# Altium footprint library W3011.PcbLib: 1 footprints
Each footprint in its own frame and in the unit in brackets; x right, y up, seen from the top. Pads: shape width x height; smd on the part's side, far side on the other; paste and mask are expansions set on the pad; w line width, h text height; cw(c..) or ccw(c..) is an arc to the next point about the centre after c.
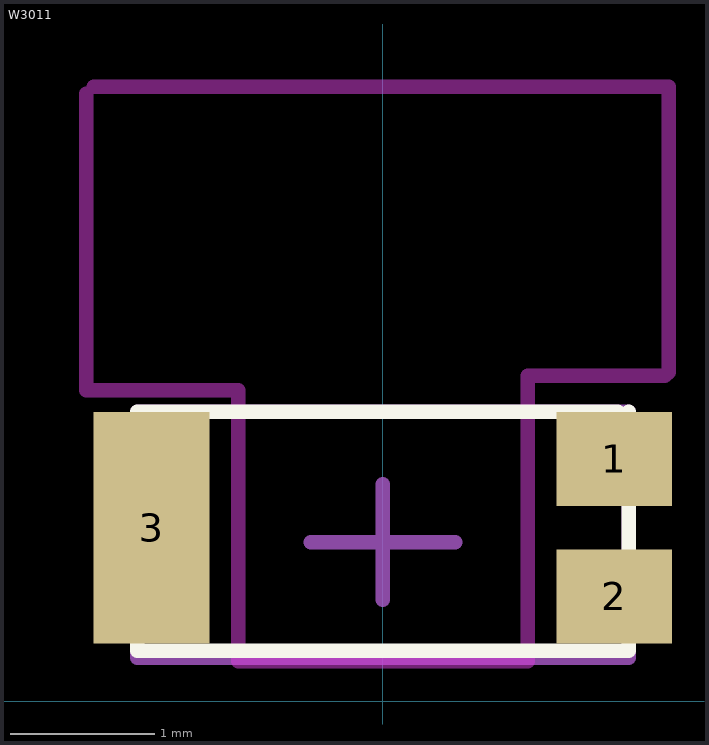
[diagram p0: the footprint, top view; thin cyan lines are the x and y axes]

## W3011 [mm]
pads (3):
  rect 0.8x0.65 smd: 1(1.6,1.675) 2(1.6,0.725)
  rect 0.8x1.6 smd: 3(-1.6,1.2)
Top Overlay:
  lines w0.1: 1.625,2 -1.7,2 -1.7,0.35 1.7,0.35 1.7,2
Keep-Out Layer:
  lines w0.1: -2.05,4.2 -2.05,2.15 -1,2.15 -1,0.275 1,0.275 1,2.25 1.95,2.25 1.975,2.275 1.975,4.25 -2,4.25
Courtyard Top:
  lines w0.1: -0.5,1.1 0.5,1.1 ; 0,0.7 0,1.5 ; -1.7,0.3 -1.7,2 1.7,2 1.7,0.3 -1.7,0.3
3D body: height 0.1, standoff 0, extent 1.2,1.35 1.9,2
3D body: height 0.1, standoff 0, extent 1.2,0.4 1.9,1.05
3D body: height 0.1, standoff 0, extent -1.9,0.4 -1.2,2
3D body: height 1.1, standoff 0, extent -1.55,0.4 1.55,2